# Altium footprint library PcbLib1.PcbLib: 2 footprints
Each footprint in its own frame and in the unit in brackets; x right, y up, seen from the top. Pads: shape width x height; smd on the part's side, far side on the other; paste and mask are expansions set on the pad; w line width, h text height; cw(c..) or ccw(c..) is an arc to the next point about the centre after c.
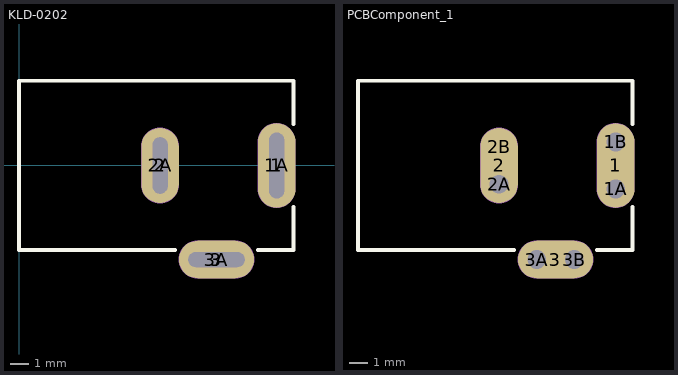
[diagram p0: the footprints below, top view; thin cyan lines are the x and y axes]

## KLD-0202 [mm] "DC Power Jack, 2.5mm, KLD Series, PCB Mount"
pads (6):
  oval 2x4.5 all layers, no hole: 1(13.7,0)
  oval 1.5x4.5 hole 0.8 slot 3.5 at 90 deg: 1A(13.7,0)
  oval 2x4 all layers, no hole: 2(7.5,0)
  oval 1.5x4 hole 0.8 slot 3 at 90 deg: 2A(7.5,0)
  oval 4x2 all layers, no hole: 3(10.5,-5)
  oval 4x1.5 hole 0.8 slot 3 at 0 deg: 3A(10.5,-5)
Top Overlay:
  lines w0.2: 8.3,-4.5 0,-4.5 0,4.5 14.6,4.5 14.6,2.2 ; 12.7,-4.5 14.6,-4.5 14.6,-2.2
Mechanical 1:
  lines w1: 7.5,-1 7.5,1 ; 9.5,-5 11.5,-5 ; 13.7,-1.25 13.7,1.25
  text "Mech 2 - Clearance, move to internal plane if present" at 0.286,5.066 h0.3
  text "Mech 1 - Slot cut-out" at 0.286,5.566 h0.3
  text "Assign keep-out area to slot" at 0.286,6.566 h0.3
  text "Alert PCB fab to slot details" at 0.286,6.066 h0.3
Mechanical 2:
  lines w2.016: 7.5,-1 7.5,1 ; 9.5,-5 11.5,-5 ; 13.7,-1.25 13.7,1.25

## PCBComponent_1 [mm]
pads (9):
  oval 2x4.5 all layers, no hole: 1(67.548,57.912)
  round 1.5 hole 1: 1A(67.548,56.662) 1B(67.548,59.162) 2A(61.348,56.912) 3A(63.348,52.912) 3B(65.348,52.912)
  oval 2x4 all layers, no hole: 2(61.348,57.912)
  round 1.5 all layers, no hole: 2B(61.348,58.912)
  oval 4x2 all layers, no hole: 3(64.348,52.912)
Top Overlay:
  lines w0.2: 62.148,53.412 53.848,53.412 53.848,62.412 68.448,62.412 68.448,60.112 ; 66.548,53.412 68.448,53.412 68.448,55.712
Mechanical 1:
  lines w1: 61.348,56.912 61.348,58.912 ; 63.348,52.912 65.348,52.912 ; 67.548,56.662 67.548,59.162
  text "Mech 2 - Clearance, move to internal plane if present" at 54.134,62.978 h0.3
  text "Mech 1 - Slot cut-out" at 54.134,63.478 h0.3
  text "Assign keep-out area to slot" at 54.134,64.478 h0.3
  text "Alert PCB fab to slot details" at 54.134,63.978 h0.3
Mechanical 2:
  lines w2.016: 61.348,56.912 61.348,58.912 ; 63.348,52.912 65.348,52.912 ; 67.548,56.662 67.548,59.162